# Altium integrated library DC_Conv_PYB30-Q24-D12.IntLib: 1 symbol
Pins are listed as number, name and electrical type; pins without a type are passive.

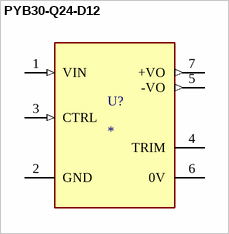
[diagram p0: symbol PYB30-Q24-D12]

## PYB30-Q24-D12
designator U?
12/-12 Vdc, 1.25 A, 30 W, 9~36 Vdc Input Range; MP: PYB30-Q24-D12; Package: None; Price: None; Value: *; Availability: Unavailable
footprint CONV_PYB30-Q24-D12
pins: 1 VIN (in), 2 GND (power), 3 CTRL (in), 4 TRIM, 5 -VO (out), 6 0V (power), 7 +VO (out)